# Altium footprint library SOT23-5.PcbLib: 1 footprints
Each footprint in its own frame and in the unit in brackets; x right, y up, seen from the top. Pads: shape width x height; smd on the part's side, far side on the other; paste and mask are expansions set on the pad; w line width, h text height; cw(c..) or ccw(c..) is an arc to the next point about the centre after c.
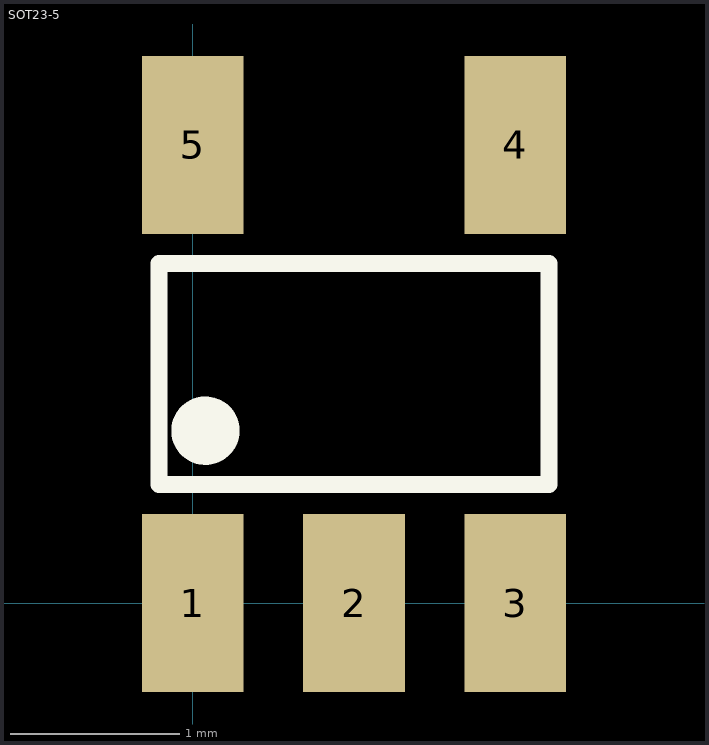
[diagram p0: the footprint, top view; thin cyan lines are the x and y axes]

## SOT23-5 [mm]
height 0.051
pads (5):
  rect 0.599x1.05 smd: 1(0,0) 2(0.95,0) 3(1.9,0) 4(1.9,2.7) 5(0,2.7)
Top Overlay:
  circle w0.254: c0.074,1.016 r0.074
  lines w0.1: -0.2,0.7 -0.2,2 2.1,2 2.1,0.7 -0.2,0.7
3D body: height 1, standoff 0, extent -0.51,0.18 2.41,2.52